# EAGLE library part 7R7 (library radiotubes)
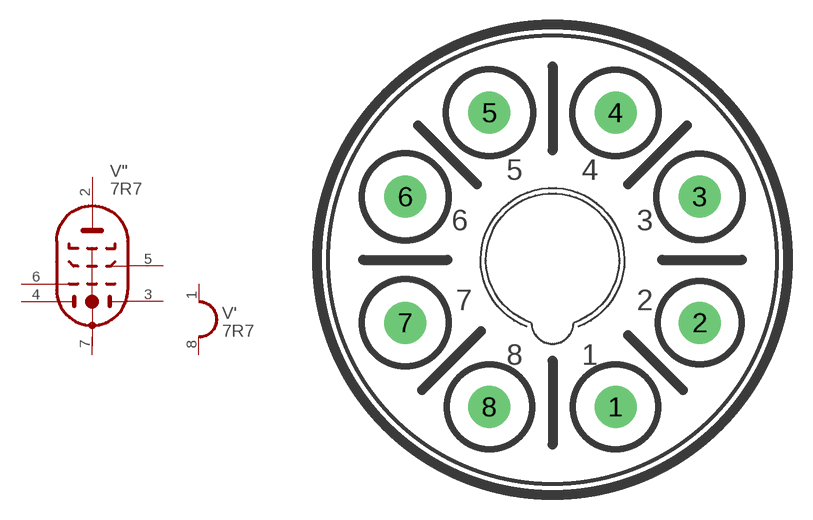
[diagram p126: symbol with the pads of OKTAL; footprint OKTAL]

Designator prefix V; gates "=DDPN-G3 '=HEATER_1

## 7R7  [OKTAL]
1  ':H1  pas
2  ":A  pas
3  ":D2  pas
4  ":D1  pas
5  ":G2  pas
6  ":G1  pas
7  ":K,G3,S  pas
8  ':H2  pas

## Footprint OKTAL (pad centres in mm)
drill 1.27 pad 2.54: 1 3.81,-8.89; 2 8.89,-3.81; 3 8.89,3.81; 4 3.81,8.89; 5 -3.81,8.89; 6 -8.89,3.81; 7 -8.89,-3.81; 8 -3.81,-8.89